# EAGLE library part MRCF522 (library debauer_modules)
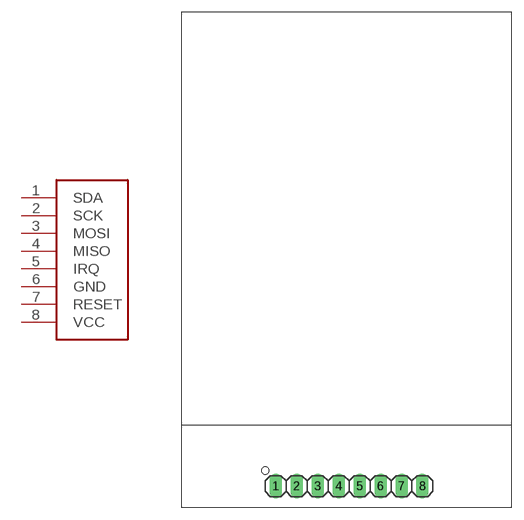
[diagram p25: symbol with the pads of MFRC522; footprint MFRC522]

Designator prefix -

## MRCF522  [MFRC522]
1  SDA
2  SCK
3  MOSI
4  MISO
5  IRQ
6  GND
7  RESET
8  VCC

## Footprint MFRC522 (pad centres in mm)
drill 1.016 long: 1 11.43,2.54; 2 13.97,2.54; 3 16.51,2.54; 4 19.05,2.54; 5 21.59,2.54; 6 24.13,2.54; 7 26.67,2.54; 8 29.21,2.54